# Altium footprint library ic-package.PCBLIB: 75 footprints (part 4 of 5)
Each footprint in its own frame and in the unit in brackets; x right, y up, seen from the top. Pads: shape width x height; smd on the part's side, far side on the other; paste and mask are expansions set on the pad; w line width, h text height; cw(c..) or ccw(c..) is an arc to the next point about the centre after c.
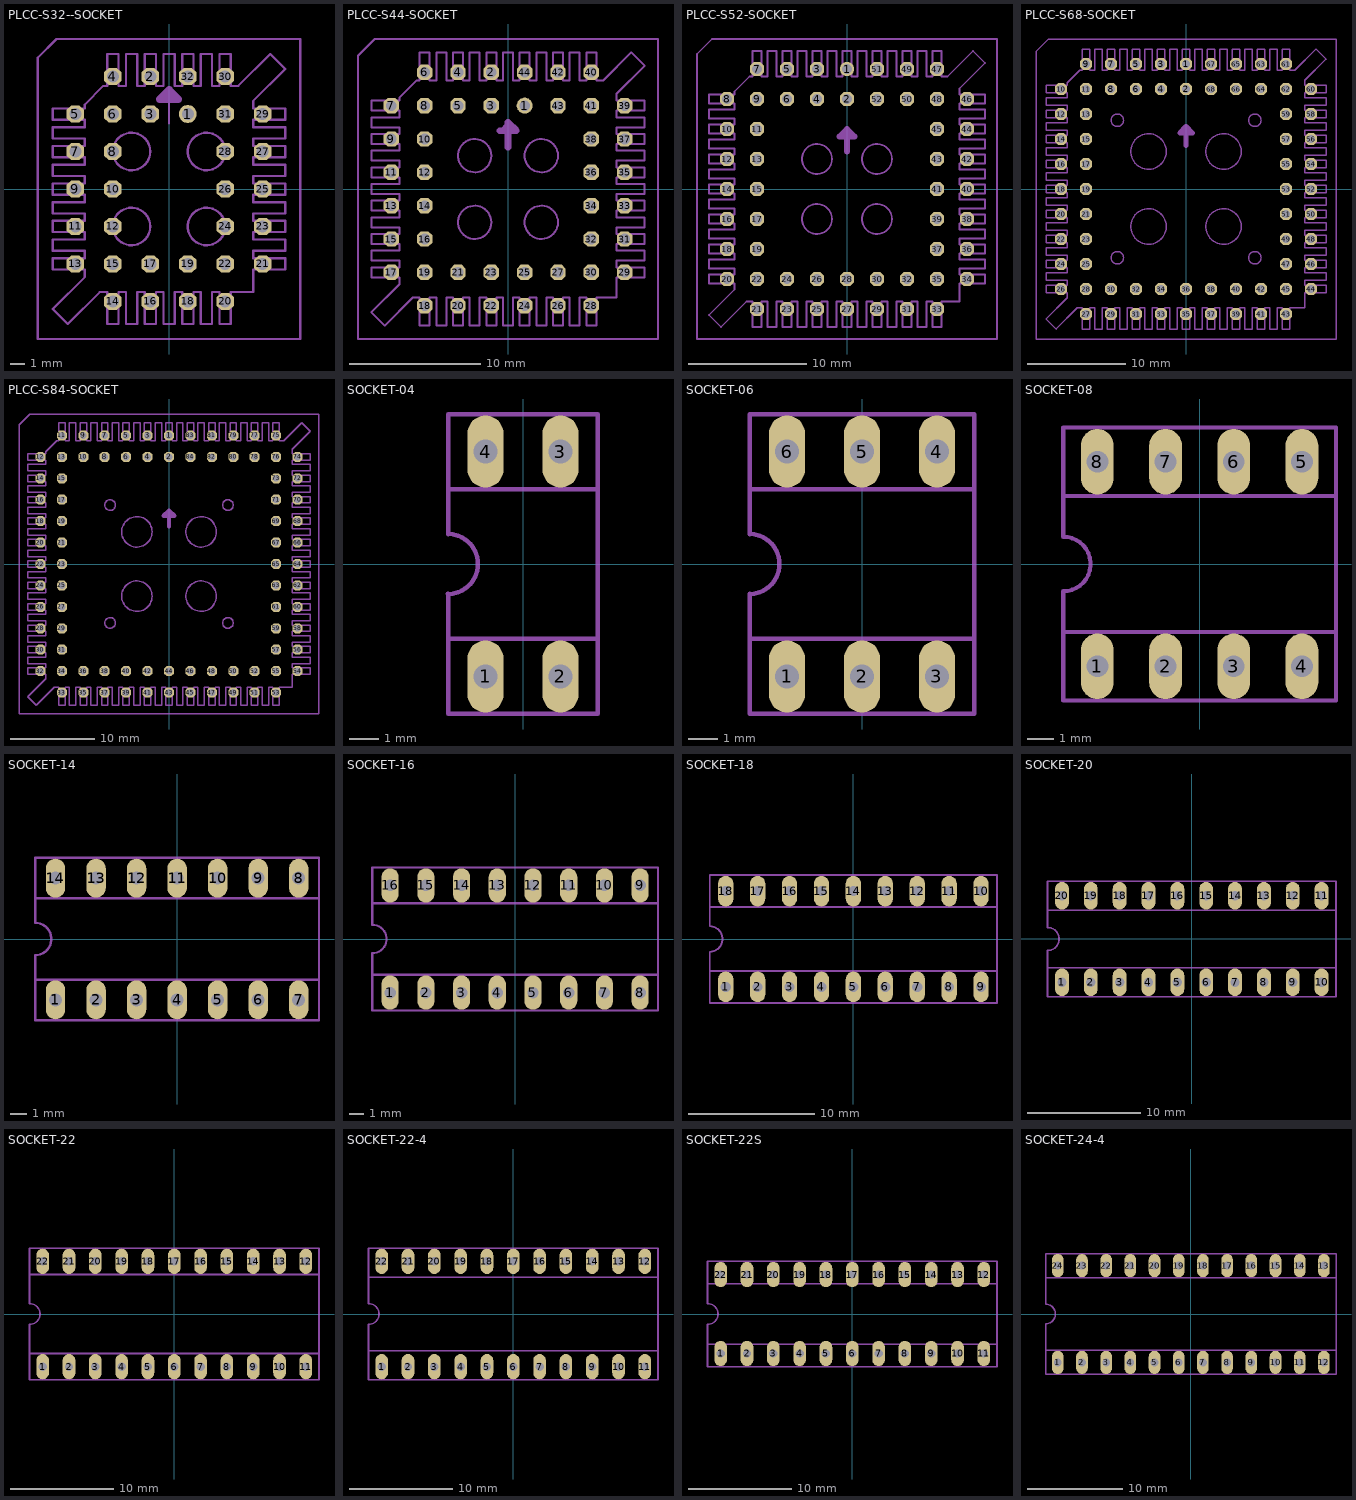
[diagram p3: the footprints below, top view; thin cyan lines are the x and y axes]

## PLCC-S32--SOCKET [mil]
pads (32):
  round 48 hole 32: 1(50,200)
  oct 46.48x46.48 hole 32: 2(-50,300) 3(-50,200) 4(-150,300) 5(-250,200) 6(-150,200) 7(-250,100) 8(-150,100) 9(-250,0) 10(-150,0) 11(-250,-100) 12(-150,-100) 13(-250,-200) 14(-150,-300) 15(-150,-200) 16(-50,-300) 17(-50,-200) 18(50,-300) 19(50,-200) 20(150,-300) 21(250,-200) 22(150,-200) 23(250,-100) 24(150,-100) 25(250,0) 26(150,0) 27(250,100) 28(150,100) 29(250,200) 30(150,300) 31(150,200) 32(50,300)
Mechanical 2:
  lines w6: -225,-235 -310,-320 -270,-360 -185,-275 ; -225,-165 -310,-165 -310,-135 -225,-135 ; -225,-65 -310,-65 -310,-35 -225,-35 ; -225,35 -310,35 -310,65 -225,65 ; -225,135 -310,135 -310,165 -225,165 ; -225,225 -175,275 ; -115,-275 -115,-360 -85,-360 -85,-275 ; -115,275 -115,360 -85,360 -85,275 ; -15,-275 -15,-360 15,-360 15,-275 ; -15,275 -15,360 15,360 15,275 ; 0,175 0,265 ; 85,-275 85,-360 115,-360 115,-275 ; 85,275 85,360 115,360 115,275 ; 165,-275 225,-275 225,-215 ; 185,275 270,360 310,320 225,235 ; 225,-165 310,-165 310,-135 225,-135 ; 225,-65 310,-65 310,-35 225,-35 ; 225,35 310,35 310,65 225,65 ; 225,135 310,135 310,165 225,165 ; -350,-400 -350,350 -300,400 350,400 350,-400 -350,-400
  lines w20: -25,240 25,240 0,265 -25,240
Mechanical 18:
  circle w6: c-100,100 r50
  circle w6: c100,100 r50
  circle w6: c-100,-100 r50
  circle w6: c100,-100 r50
  lines w6: -225,-235 -225,-215 -310,-215 -310,-185 -225,-185 -225,-165 ; -225,-135 -225,-115 -310,-115 -310,-85 -225,-85 -225,-65 ; -225,-35 -225,-15 -310,-15 -310,15 -225,15 -225,35 ; -225,65 -225,85 -310,85 -310,115 -225,115 -225,135 ; -225,165 -225,185 -310,185 -310,215 -225,215 -225,225 ; -185,-275 -165,-275 -165,-360 -135,-360 -135,-275 -115,-275 ; -175,275 -165,275 -165,360 -135,360 -135,275 -115,275 ; -85,-275 -65,-275 -65,-360 -35,-360 -35,-275 -15,-275 ; -85,275 -65,275 -65,360 -35,360 -35,275 -15,275 ; 15,-275 35,-275 35,-360 65,-360 65,-275 85,-275 ; 15,275 35,275 35,360 65,360 65,275 85,275 ; 115,-275 135,-275 135,-360 165,-360 165,-275 ; 115,275 135,275 135,360 165,360 165,275 185,275 ; 225,-215 310,-215 310,-185 225,-185 225,-165 ; 225,-135 225,-115 310,-115 310,-85 225,-85 225,-65 ; 225,-35 225,-15 310,-15 310,15 225,15 225,35 ; 225,65 225,85 310,85 310,115 225,115 225,135 ; 225,165 225,185 310,185 310,215 225,215 225,235

## PLCC-S44-SOCKET [mil]
pads (44):
  round 48 hole 32: 1(50,250)
  oct 46.48x46.48 hole 32: 2(-50,350) 3(-50,250) 4(-150,350) 5(-150,250) 6(-250,350) 7(-350,250) 8(-250,250) 9(-350,150) 10(-250,150) 11(-350,50) 12(-250,50) 13(-350,-50) 14(-250,-50) 15(-350,-150) 16(-250,-150) 17(-350,-250) 18(-250,-350) 19(-250,-250) 20(-150,-350) 21(-150,-250) 22(-50,-350) 23(-50,-250) 24(50,-350) 25(50,-250) 26(150,-350) 27(150,-250) 28(250,-350) 29(350,-250) 30(250,-250) 31(350,-150) 32(250,-150) 33(350,-50) 34(250,-50) 35(350,50) 36(250,50) 37(350,150) 38(250,150) 39(350,250) 40(250,350) 41(250,250) 42(150,350) 43(150,250) 44(50,350)
Mechanical 2:
  circle w6: c-100,100 r50
  circle w6: c100,100 r50
  circle w6: c-100,-100 r50
  circle w6: c100,-100 r50
  lines w6: -325,-285 -410,-370 -370,-410 -285,-325 ; -325,-215 -410,-215 -410,-185 -325,-185 ; -325,-115 -410,-115 -410,-85 -325,-85 ; -325,-15 -410,-15 -410,15 -325,15 ; -325,85 -410,85 -410,115 -325,115 ; -325,185 -410,185 -410,215 -325,215 ; -325,275 -275,325 ; -215,-325 -215,-410 -185,-410 -185,-325 ; -215,325 -215,410 -185,410 -185,325 ; -115,-325 -115,-410 -85,-410 -85,-325 ; -115,325 -115,410 -85,410 -85,325 ; -25,175 0,200 ; -15,-325 -15,-410 15,-410 15,-325 ; -15,325 -15,410 15,410 15,325 ; 85,-325 85,-410 115,-410 115,-325 ; 85,325 85,410 115,410 115,325 ; 185,-325 185,-410 215,-410 215,-325 ; 185,325 185,410 215,410 215,325 ; 265,-325 325,-325 325,-265 ; 285,325 370,410 410,370 325,285 ; 325,-215 410,-215 410,-185 325,-185 ; 325,-115 410,-115 410,-85 325,-85 ; 325,-15 410,-15 410,15 325,15 ; 325,85 410,85 410,115 325,115 ; 325,185 410,185 410,215 325,215 ; -450,-450 -450,400 -400,450 450,450 450,-450 -450,-450
  lines w20: -25,175 25,175 0,200 0,125
Mechanical 18:
  lines w6: -325,-285 -325,-265 -410,-265 -410,-235 -325,-235 -325,-215 ; -325,-185 -325,-165 -410,-165 -410,-135 -325,-135 -325,-115 ; -325,-85 -325,-65 -410,-65 -410,-35 -325,-35 -325,-15 ; -325,15 -325,35 -410,35 -410,65 -325,65 -325,85 ; -325,115 -325,135 -410,135 -410,165 -325,165 -325,185 ; -325,215 -325,235 -410,235 -410,265 -325,265 -325,275 ; -285,-325 -265,-325 -265,-410 -235,-410 -235,-325 -215,-325 ; -275,325 -265,325 -265,410 -235,410 -235,325 -215,325 ; -185,-325 -165,-325 -165,-410 -135,-410 -135,-325 -115,-325 ; -185,325 -165,325 -165,410 -135,410 -135,325 -115,325 ; -85,-325 -65,-325 -65,-410 -35,-410 -35,-325 -15,-325 ; -85,325 -65,325 -65,410 -35,410 -35,325 -15,325 ; 15,-325 35,-325 35,-410 65,-410 65,-325 85,-325 ; 15,325 35,325 35,410 65,410 65,325 85,325 ; 115,-325 135,-325 135,-410 165,-410 165,-325 185,-325 ; 115,325 135,325 135,410 165,410 165,325 185,325 ; 215,-325 235,-325 235,-410 265,-410 265,-325 ; 215,325 235,325 235,410 265,410 265,325 285,325 ; 325,-265 410,-265 410,-235 325,-235 325,-215 ; 325,-185 325,-165 410,-165 410,-135 325,-135 325,-115 ; 325,-85 325,-65 410,-65 410,-35 325,-35 325,-15 ; 325,15 325,35 410,35 410,65 325,65 325,85 ; 325,115 325,135 410,135 410,165 325,165 325,185 ; 325,215 325,235 410,235 410,265 325,265 325,285

## PLCC-S52-SOCKET [mil]
pads (52):
  round 48 hole 32: 1(0,400)
  oct 46.48x46.48 hole 32: 2(0,300) 3(-100,400) 4(-100,300) 5(-200,400) 6(-200,300) 7(-300,400) 8(-400,300) 9(-300,300) 10(-400,200) 11(-300,200) 12(-400,100) 13(-300,100) 14(-400,0) 15(-300,0) 16(-400,-100) 17(-300,-100) 18(-400,-200) 19(-300,-200) 20(-400,-300) 21(-300,-400) 22(-300,-300) 23(-200,-400) 24(-200,-300) 25(-100,-400) 26(-100,-300) 27(0,-400) 28(0,-300) 29(100,-400) 30(100,-300) 31(200,-400) 32(200,-300) 33(300,-400) 34(400,-300) 35(300,-300) 36(400,-200) 37(300,-200) 38(400,-100) 39(300,-100) 40(400,0) 41(300,0) 42(400,100) 43(300,100) 44(400,200) 45(300,200) 46(400,300) 47(300,400) 48(300,300) 49(200,400) 50(200,300) 51(100,400) 52(100,300)
Mechanical 2:
  circle w6: c-100,100 r50
  circle w6: c100,100 r50
  circle w6: c-100,-100 r50
  circle w6: c100,-100 r50
  lines w6: -375,-335 -460,-420 -420,-460 -335,-375 ; -375,-265 -460,-265 -460,-235 -375,-235 ; -375,-165 -460,-165 -460,-135 -375,-135 ; -375,-65 -460,-65 -460,-35 -375,-35 ; -375,35 -460,35 -460,65 -375,65 ; -375,135 -460,135 -460,165 -375,165 ; -375,235 -460,235 -460,265 -375,265 ; -375,325 -325,375 ; -265,-375 -265,-460 -235,-460 -235,-375 ; -265,375 -265,460 -235,460 -235,375 ; -165,-375 -165,-460 -135,-460 -135,-375 ; -165,375 -165,460 -135,460 -135,375 ; -65,-375 -65,-460 -35,-460 -35,-375 ; -65,375 -65,460 -35,460 -35,375 ; 35,-375 35,-460 65,-460 65,-375 ; 35,375 35,460 65,460 65,375 ; 135,-375 135,-460 165,-460 165,-375 ; 135,375 135,460 165,460 165,375 ; 235,-375 235,-460 265,-460 265,-375 ; 235,375 235,460 265,460 265,375 ; 315,-375 375,-375 375,-315 ; 335,375 420,460 460,420 375,335 ; 375,-265 460,-265 460,-235 375,-235 ; 375,-165 460,-165 460,-135 375,-135 ; 375,-65 460,-65 460,-35 375,-35 ; 375,35 460,35 460,65 375,65 ; 375,135 460,135 460,165 375,165 ; 375,235 460,235 460,265 375,265 ; -500,-500 -500,450 -450,500 500,500 500,-500 -500,-500
  lines w20: 0,125 0,200 ; 0,200 25,175 -25,175 0,200
Mechanical 18:
  lines w6: -375,-335 -375,-315 -460,-315 -460,-285 -375,-285 -375,-265 ; -375,-235 -375,-215 -460,-215 -460,-185 -375,-185 -375,-165 ; -375,-135 -375,-115 -460,-115 -460,-85 -375,-85 -375,-65 ; -375,-35 -375,-15 -460,-15 -460,15 -375,15 -375,35 ; -375,65 -375,85 -460,85 -460,115 -375,115 -375,135 ; -375,165 -375,185 -460,185 -460,215 -375,215 -375,235 ; -375,265 -375,285 -460,285 -460,315 -375,315 -375,325 ; -335,-375 -315,-375 -315,-460 -285,-460 -285,-375 -265,-375 ; -325,375 -315,375 -315,460 -285,460 -285,375 -265,375 ; -235,-375 -215,-375 -215,-460 -185,-460 -185,-375 -165,-375 ; -235,375 -215,375 -215,460 -185,460 -185,375 -165,375 ; -135,-375 -115,-375 -115,-460 -85,-460 -85,-375 -65,-375 ; -135,375 -115,375 -115,460 -85,460 -85,375 -65,375 ; -35,-375 -15,-375 -15,-460 15,-460 15,-375 35,-375 ; -35,375 -15,375 -15,460 15,460 15,375 35,375 ; 65,-375 85,-375 85,-460 115,-460 115,-375 135,-375 ; 65,375 85,375 85,460 115,460 115,375 135,375 ; 165,-375 185,-375 185,-460 215,-460 215,-375 235,-375 ; 165,375 185,375 185,460 215,460 215,375 235,375 ; 265,-375 285,-375 285,-460 315,-460 315,-375 ; 265,375 285,375 285,460 315,460 315,375 335,375 ; 375,-315 460,-315 460,-285 375,-285 375,-265 ; 375,-235 375,-215 460,-215 460,-185 375,-185 375,-165 ; 375,-135 375,-115 460,-115 460,-85 375,-85 375,-65 ; 375,-35 375,-15 460,-15 460,15 375,15 375,35 ; 375,65 375,85 460,85 460,115 375,115 375,135 ; 375,165 375,185 460,185 460,215 375,215 375,235 ; 375,265 375,285 460,285 460,315 375,315 375,335

## PLCC-S68-SOCKET [mil]
pads (68):
  oct 46.48x46.48 hole 32: 1(0,500) 2(0,400) 3(-100,500) 4(-100,400) 5(-200,500) 6(-200,400) 7(-300,500) 8(-300,400) 9(-400,500) 10(-500,400) 11(-400,400) 12(-500,300) 13(-400,300) 14(-500,200) 15(-400,200) 16(-500,100) 17(-400,100) 18(-500,0) 19(-400,0) 20(-500,-100) 21(-400,-100) 22(-500,-200) 23(-400,-200) 24(-500,-300) 25(-400,-300) 26(-500,-400) 27(-400,-500) 28(-400,-400) 29(-300,-500) 30(-300,-400) 31(-200,-500) 32(-200,-400) 33(-100,-500) 34(-100,-400) 35(0,-500) 36(0,-400) 37(100,-500) 38(100,-400) 39(200,-500) 40(200,-400) 41(300,-500) 42(300,-400) 43(400,-500) 44(500,-400) 45(400,-400) 46(500,-300) 47(400,-300) 48(500,-200) 49(400,-200) 50(500,-100) 51(400,-100) 52(500,0) 53(400,0) 54(500,100) 55(400,100) 56(500,200) 57(400,200) 58(500,300) 59(400,300) 60(500,400) 61(400,500) 62(400,400) 63(300,500) 64(300,400) 65(200,500) 66(200,400) 67(100,500) 68(100,400)
Mechanical 2:
  circle w6: c275,275 r25
  circle w6: c-275,275 r25
  circle w6: c-275,-275 r25
  circle w6: c275,-275 r25
  circle w6: c-150,150 r71
  circle w6: c150,150 r71
  circle w6: c-150,-150 r71
  circle w6: c150,-150 r71
  lines w6: -475,-435 -560,-520 -520,-560 -435,-475 ; -475,-365 -560,-365 -560,-335 -475,-335 ; -475,-265 -560,-265 -560,-235 -475,-235 ; -475,-165 -560,-165 -560,-135 -475,-135 ; -475,-65 -560,-65 -560,-35 -475,-35 ; -475,35 -560,35 -560,65 -475,65 ; -475,135 -560,135 -560,165 -475,165 ; -475,235 -560,235 -560,265 -475,265 ; -475,335 -560,335 -560,365 -475,365 ; -475,425 -425,475 ; -365,-475 -365,-560 -335,-560 -335,-475 ; -365,475 -365,560 -335,560 -335,475 ; -265,-475 -265,-560 -235,-560 -235,-475 ; -265,475 -265,560 -235,560 -235,475 ; -165,-475 -165,-560 -135,-560 -135,-475 ; -165,475 -165,560 -135,560 -135,475 ; -65,-475 -65,-560 -35,-560 -35,-475 ; -65,475 -65,560 -35,560 -35,475 ; 35,-475 35,-560 65,-560 65,-475 ; 35,475 35,560 65,560 65,475 ; 135,-475 135,-560 165,-560 165,-475 ; 135,475 135,560 165,560 165,475 ; 235,-475 235,-560 265,-560 265,-475 ; 235,475 235,560 265,560 265,475 ; 335,-475 335,-560 365,-560 365,-475 ; 335,475 335,560 365,560 365,475 ; 415,-475 475,-475 475,-415 ; 435,475 520,560 560,520 475,435 ; 475,-365 560,-365 560,-335 475,-335 ; 475,-265 560,-265 560,-235 475,-235 ; 475,-165 560,-165 560,-135 475,-135 ; 475,-65 560,-65 560,-35 475,-35 ; 475,35 560,35 560,65 475,65 ; 475,135 560,135 560,165 475,165 ; 475,235 560,235 560,265 475,265 ; 475,335 560,335 560,365 475,365 ; -600,-600 -600,550 -550,600 600,600 600,-600 -600,-600
  lines w20: 0,175 0,250 ; 0,250 25,225 -25,225 0,250
Mechanical 18:
  drawing of 178 lines, arcs and shapes, not listed

## PLCC-S84-SOCKET [mil]
pads (84):
  oct 46.48x46.48 hole 32: 1(0,600) 2(0,500) 3(-100,600) 4(-100,500) 5(-200,600) 6(-200,500) 7(-300,600) 8(-300,500) 9(-400,600) 10(-400,500) 11(-500,600) 12(-600,500) 13(-500,500) 14(-600,400) 15(-500,400) 16(-600,300) 17(-500,300) 18(-600,200) 19(-500,200) 20(-600,100) 21(-500,100) 22(-600,0) 23(-500,0) 24(-600,-100) 25(-500,-100) 26(-600,-200) 27(-500,-200) 28(-600,-300) 29(-500,-300) 30(-600,-400) 31(-500,-400) 32(-600,-500) 33(-500,-600) 34(-500,-500) 35(-400,-600) 36(-400,-500) 37(-300,-600) 38(-300,-500) 39(-200,-600) 40(-200,-500) 41(-100,-600) 42(-100,-500) 43(0,-600) 44(0,-500) 45(100,-600) 46(100,-500) 47(200,-600) 48(200,-500) 49(300,-600) 50(300,-500) 51(400,-600) 52(400,-500) 53(500,-600) 54(600,-500) 55(500,-500) 56(600,-400) 57(500,-400) 58(600,-300) 59(500,-300) 60(600,-200) 61(500,-200) 62(600,-100) 63(500,-100) 64(600,0) 65(500,0) 66(600,100) 67(500,100) 68(600,200) 69(500,200) 70(600,300) 71(500,300) 72(600,400) 73(500,400) 74(600,500) 75(500,600) 76(500,500) 77(400,600) 78(400,500) 79(300,600) 80(300,500) 81(200,600) 82(200,500) 83(100,600) 84(100,500)
Mechanical 2:
  circle w6: c275,275 r25
  circle w6: c-275,275 r25
  circle w6: c-275,-275 r25
  circle w6: c275,-275 r25
  circle w6: c-150,150 r71
  circle w6: c150,150 r71
  circle w6: c-150,-150 r71
  circle w6: c150,-150 r71
  lines w6: -575,-535 -660,-620 -620,-660 -535,-575 ; -575,-465 -660,-465 -660,-435 -575,-435 ; -575,-365 -660,-365 -660,-335 -575,-335 ; -575,-265 -660,-265 -660,-235 -575,-235 ; -575,-165 -660,-165 -660,-135 -575,-135 ; -575,-65 -660,-65 -660,-35 -575,-35 ; -575,35 -660,35 -660,65 -575,65 ; -575,135 -660,135 -660,165 -575,165 ; -575,235 -660,235 -660,265 -575,265 ; -575,335 -660,335 -660,365 -575,365 ; -575,435 -660,435 -660,465 -575,465 ; -575,525 -525,575 ; -465,-575 -465,-660 -435,-660 -435,-575 ; -465,575 -465,660 -435,660 -435,575 ; -365,-575 -365,-660 -335,-660 -335,-575 ; -365,575 -365,660 -335,660 -335,575 ; -265,-575 -265,-660 -235,-660 -235,-575 ; -265,575 -265,660 -235,660 -235,575 ; -165,-575 -165,-660 -135,-660 -135,-575 ; -165,575 -165,660 -135,660 -135,575 ; -65,-575 -65,-660 -35,-660 -35,-575 ; -65,575 -65,660 -35,660 -35,575 ; 35,-575 35,-660 65,-660 65,-575 ; 35,575 35,660 65,660 65,575 ; 135,-575 135,-660 165,-660 165,-575 ; 135,575 135,660 165,660 165,575 ; 235,-575 235,-660 265,-660 265,-575 ; 235,575 235,660 265,660 265,575 ; 335,-575 335,-660 365,-660 365,-575 ; 335,575 335,660 365,660 365,575 ; 435,-575 435,-660 465,-660 465,-575 ; 435,575 435,660 465,660 465,575 ; 515,-575 575,-575 575,-515 ; 535,575 620,660 660,620 575,535 ; 575,-465 660,-465 660,-435 575,-435 ; 575,-365 660,-365 660,-335 575,-335 ; 575,-265 660,-265 660,-235 575,-235 ; 575,-165 660,-165 660,-135 575,-135 ; 575,-65 660,-65 660,-35 575,-35 ; 575,35 660,35 660,65 575,65 ; 575,135 660,135 660,165 575,165 ; 575,235 660,235 660,265 575,265 ; 575,335 660,335 660,365 575,365 ; 575,435 660,435 660,465 575,465 ; -700,-700 -700,650 -650,700 700,700 700,-700 -700,-700
  lines w20: 0,175 0,250 ; 0,250 25,225 -25,225 0,250
Mechanical 18:
  drawing of 218 lines, arcs and shapes, not listed

## SOCKET-04 [mil]
pads (4):
  oval 48x96 hole 32: 1(-50,-150) 2(50,-150) 3(50,150) 4(-50,150)
Mechanical 2:
  lines w6: -100,-100 -100,-200 100,-200 100,-100 ; -100,-100 100,-100 ; -100,-100 -100,-40 ccw(c-100,0) -100,40 -100,100 ; -100,100 -100,200 100,200 100,100 ; -100,100 100,100 ; 100,-100 100,100

## SOCKET-06 [mil]
pads (6):
  oval 48x96 hole 32: 1(-100,-150) 2(0,-150) 3(100,-150) 4(100,150) 5(0,150) 6(-100,150)
Mechanical 2:
  lines w6: -150,-100 -150,-200 150,-200 150,-100 ; -150,-100 150,-100 ; -150,-100 -150,-40 ccw(c-150,0) -150,40 -150,100 ; -150,100 -150,200 150,200 150,100 ; -150,100 150,100 ; 150,-100 150,100

## SOCKET-08 [mil]
pads (8):
  oval 48x96 hole 32: 1(-150,-150) 2(-50,-150) 3(50,-150) 4(150,-150) 5(150,150) 6(50,150) 7(-50,150) 8(-150,150)
Mechanical 2:
  lines w6: -200,-100 -200,-200 200,-200 200,-100 ; -200,-100 200,-100 ; -200,-100 -200,-40 ccw(c-200,0) -200,40 -200,100 ; -200,100 -200,200 200,200 200,100 ; -200,100 200,100 ; 200,-100 200,100

## SOCKET-14 [mil]
pads (14):
  oval 48x96 hole 32: 1(-300,-150) 2(-200,-150) 3(-100,-150) 4(0,-150) 5(100,-150) 6(200,-150) 7(300,-150) 8(300,150) 9(200,150) 10(100,150) 11(0,150) 12(-100,150) 13(-200,150) 14(-300,150)
Mechanical 2:
  lines w6: -350,-100 -350,-200 350,-200 350,-100 ; -350,-100 350,-100 ; -350,-100 -350,-40 ccw(c-350,0) -350,40 -350,100 ; -350,100 -350,200 350,200 350,100 ; -350,100 350,100 ; 350,-100 350,100

## SOCKET-16 [mil]
pads (16):
  oval 48x96 hole 32: 1(-350,-150) 2(-250,-150) 3(-150,-150) 4(-50,-150) 5(50,-150) 6(150,-150) 7(250,-150) 8(350,-150) 9(350,150) 10(250,150) 11(150,150) 12(50,150) 13(-50,150) 14(-150,150) 15(-250,150) 16(-350,150)
Mechanical 2:
  lines w6: -400,-100 -400,-200 400,-200 400,-100 ; -400,-100 400,-100 ; -400,-100 -400,-40 ccw(c-400,0) -400,40 -400,100 ; -400,100 -400,200 400,200 400,100 ; -400,100 400,100 ; 400,-100 400,100

## SOCKET-18 [mil]
pads (18):
  oval 48x96 hole 32: 1(-400,-150) 2(-300,-150) 3(-200,-150) 4(-100,-150) 5(0,-150) 6(100,-150) 7(200,-150) 8(300,-150) 9(400,-150) 10(400,150) 11(300,150) 12(200,150) 13(100,150) 14(0,150) 15(-100,150) 16(-200,150) 17(-300,150) 18(-400,150)
Mechanical 2:
  lines w6: -450,-100 -450,-200 450,-200 450,-100 ; -450,-100 450,-100 ; -450,-100 -450,-40 ccw(c-450,0) -450,40 -450,100 ; -450,100 -450,200 450,200 450,100 ; -450,100 450,100 ; 450,-100 450,100

## SOCKET-20 [mil]
pads (20):
  oval 48x96 hole 32: 1(-450,-150) 2(-350,-150) 3(-250,-150) 4(-150,-150) 5(-50,-150) 6(50,-150) 7(150,-150) 8(250,-150) 9(350,-150) 10(450,-150) 11(450,150) 12(350,150) 13(250,150) 14(150,150) 15(50,150) 16(-50,150) 17(-150,150) 18(-250,150) 19(-350,150) 20(-450,150)
Mechanical 2:
  lines w6: -500,-100 -500,-200 500,-200 500,-100 ; -500,-100 500,-100 ; -500,-100 -500,-40 ccw(c-500,0) -500,40 -500,100 ; -500,100 -500,200 500,200 500,100 ; -500,100 500,100 ; 500,-100 500,100

## SOCKET-22 [mil]
pads (22):
  oval 48x96 hole 32: 1(-500,-200) 2(-400,-200) 3(-300,-200) 4(-200,-200) 5(-100,-200) 6(0,-200) 7(100,-200) 8(200,-200) 9(300,-200) 10(400,-200) 11(500,-200) 12(500,200) 13(400,200) 14(300,200) 15(200,200) 16(100,200) 17(0,200) 18(-100,200) 19(-200,200) 20(-300,200) 21(-400,200) 22(-500,200)
Mechanical 2:
  lines w6: -550,-150 -550,-250 550,-250 550,-150 ; -550,-150 550,-150 ; -550,-150 -550,-40 ccw(c-550,0) -550,40 -550,150 ; -550,150 -550,250 550,250 550,150 ; -550,150 550,150 ; 550,-150 550,150

## SOCKET-22-4 [mil]
pads (22):
  oval 48x96 hole 32: 1(-500,-200) 2(-400,-200) 3(-300,-200) 4(-200,-200) 5(-100,-200) 6(0,-200) 7(100,-200) 8(200,-200) 9(300,-200) 10(400,-200) 11(500,-200) 12(500,200) 13(400,200) 14(300,200) 15(200,200) 16(100,200) 17(0,200) 18(-100,200) 19(-200,200) 20(-300,200) 21(-400,200) 22(-500,200)
Mechanical 2:
  lines w6: -550,-140 550,-140 ; -550,-140 -550,-250 550,-250 550,-140 ; -550,-140 -550,-40 ccw(c-550,0) -550,40 -550,140 ; -550,140 550,140 ; -550,140 -550,250 550,250 550,140 ; 550,-140 550,140

## SOCKET-22S [mil]
pads (22):
  oval 48x96 hole 32: 1(-500,-150) 2(-400,-150) 3(-300,-150) 4(-200,-150) 5(-100,-150) 6(0,-150) 7(100,-150) 8(200,-150) 9(300,-150) 10(400,-150) 11(500,-150) 12(500,150) 13(400,150) 14(300,150) 15(200,150) 16(100,150) 17(0,150) 18(-100,150) 19(-200,150) 20(-300,150) 21(-400,150) 22(-500,150)
Mechanical 2:
  lines w6: -550,-100 -550,-115 550,-115 550,-100 ; -550,-100 -550,-40 ccw(c-550,0) -550,40 -550,100 ; -550,-100 -550,-200 550,-200 550,-100 ; -550,100 -550,115 550,115 550,100 ; -550,100 -550,200 550,200 550,100 ; 550,-100 550,100

## SOCKET-24-4 [mil]
pads (24):
  oval 48x96 hole 32: 1(-550,-200) 2(-450,-200) 3(-350,-200) 4(-250,-200) 5(-150,-200) 6(-50,-200) 7(50,-200) 8(150,-200) 9(250,-200) 10(350,-200) 11(450,-200) 12(550,-200) 13(550,200) 14(450,200) 15(350,200) 16(250,200) 17(150,200) 18(50,200) 19(-50,200) 20(-150,200) 21(-250,200) 22(-350,200) 23(-450,200) 24(-550,200)
Mechanical 2:
  lines w6: -600,-150 -600,-250 600,-250 600,-150 ; -600,-150 -600,-40 ccw(c-600,0) -600,40 -600,150 ; -600,-150 600,-150 ; -600,150 -600,250 600,250 600,150 ; -600,150 600,150 ; 600,-150 600,150